# Altium schematic symbol library EEUED2C250U.SchLib: 1 symbol
Pins are listed as number, name and electrical type; pins without a type are passive.

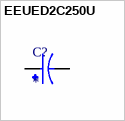
[diagram p0: symbol EEUED2C250U]

## EEUED2C250U
designator C?
Aluminum Electrolytic Capacitors, ED-A Series, 25uF +/- 20%, 160V, Radial lead type(10x16mm); Manufacturer: Panasonic; Mfr.Part #: EEUED2C250U; Package: RADIAL-2 Panasonic; Value: 25uF
footprint EEUED2C250U
pins: N, P